# Altium footprint library HEAT.PcbLib: 1 footprints
Each footprint in its own frame and in the unit in brackets; x right, y up, seen from the top. Pads: shape width x height; smd on the part's side, far side on the other; paste and mask are expansions set on the pad; w line width, h text height; cw(c..) or ccw(c..) is an arc to the next point about the centre after c.
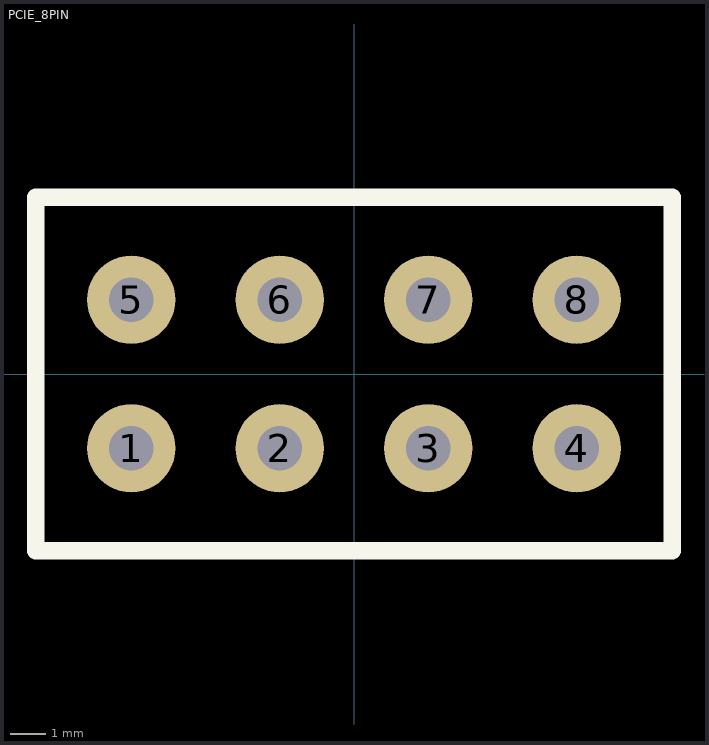
[diagram p0: the footprint, top view; thin cyan lines are the x and y axes]

## PCIE_8PIN [mm]
pads (8):
  round 2.5 hole 1.25: 1(-6.3,-2.1) 2(-2.1,-2.1) 3(2.1,-2.1) 4(6.3,-2.1) 5(-6.3,2.1) 6(-2.1,2.1) 7(2.1,2.1) 8(6.3,2.1)
Top Overlay:
  lines w0.5: -9,-5 9,-5 9,5 -9,5 -9,-5